# Altium schematic symbol library Arduinolib.SchLib: 14 symbols
Pins are listed as number, name and electrical type; pins without a type are passive.

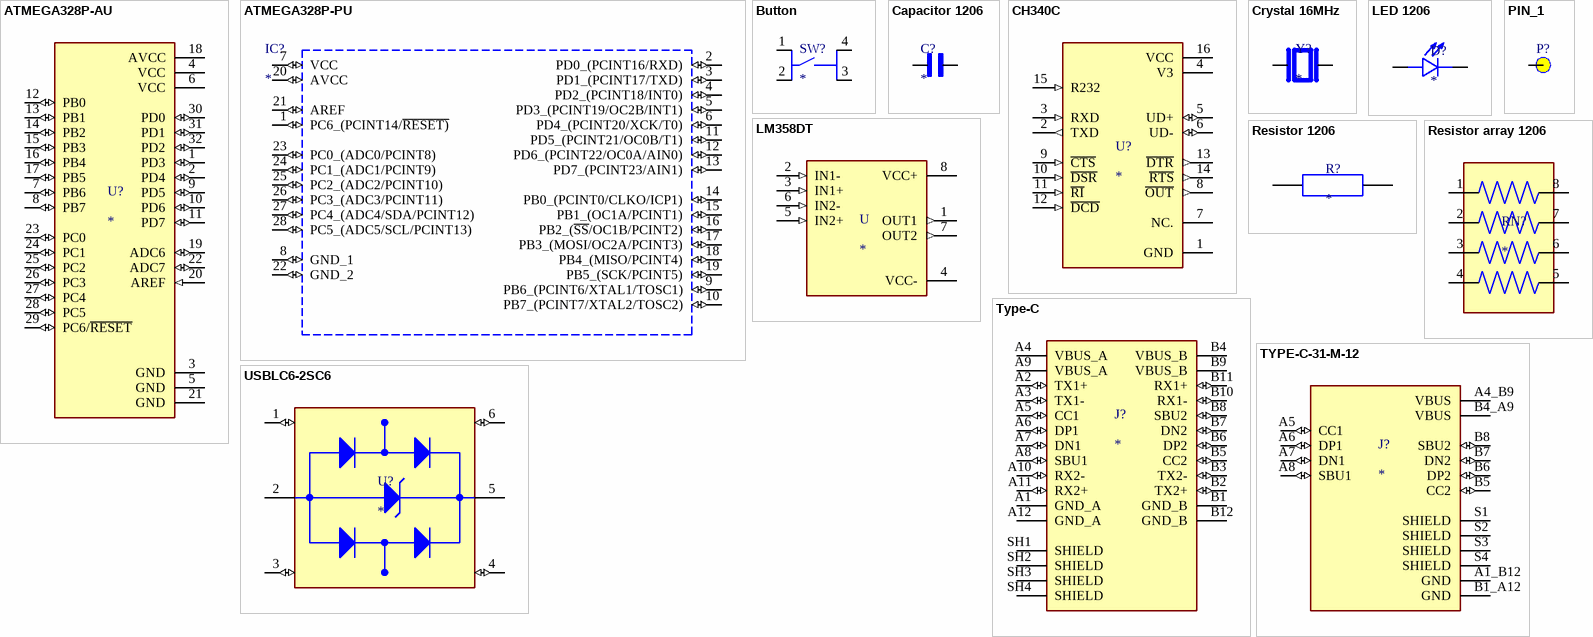
[diagram p0: symbols ATMEGA328P-AU to USBLC6-2SC6]

## ATMEGA328P-AU
designator U?
MICROCONTROLLER MCU, 8 BIT, ATMEGA, 20MH; MICROCONTROLLER MCU, 8 BIT, ATMEGA, 20MHZ, TQFP-32; Controller Family/Series:ATmega; CPU Speed:20MHz; Program Memory Size:32KB; RAM Memory Size:2KB; No. of Pins:32Pins; MCU Case Style:TQFP; No. of I/O's:23I/O's; P; MF: Microchip Technology; MP: ATMEGA328PAU; SnapEDA_Link: https://www.snapeda.com/parts/ATMEGA328PAU/Microchip+Technology/view-part/?ref=snap; Package: None; Value: *; Check_prices: https://www.snapeda.com/parts/ATMEGA328PAU/Microchip+Technology/view-part/?ref=eda
footprint ATMEGA328P-AU
pins: 1 PD3 (io), 2 PD4 (io), 3 GND (power), 4 VCC (power), 5 GND (power), 6 VCC (power), 7 PB6 (io), 8 PB7 (io), 9 PD5 (io), 10 PD6 (io), 11 PD7 (io), 12 PB0 (io), 13 PB1 (io), 14 PB2 (io), 15 PB3 (io), 16 PB4 (io), 17 PB5 (io), 18 AVCC (power), 19 ADC6 (io), 20 AREF (in), 21 GND (power), 22 ADC7 (io), 23 PC0 (io), 24 PC1 (io), 25 PC2 (io), 26 PC3 (io), 27 PC4 (io), 28 PC5 (io), 29 PC6/~{RESET} (io), 30 PD0 (io), 31 PD1 (io), 32 PD2 (io)

## ATMEGA328P-PU
designator IC?
AVR AVRÂ® ATmega Microcontroller IC 8-Bit 20MHz 32KB (16K x 16) FLASH 28-PDIP; MF: Microchip Technology; MP: ATMEGA328PPU; SnapEDA_Link: https://www.snapeda.com/parts/ATMEGA328PPU/Microchip+Technology/view-part/?ref=snap; Package: None; Value: *; Check_prices: https://www.snapeda.com/parts/ATMEGA328PPU/Microchip+Technology/view-part/?ref=eda
footprint ATMEGA328P-PU
pins: 1 PC6_(PCINT14/~{RESET)} (io), 2 PD0_(PCINT16/RXD) (io), 3 PD1_(PCINT17/TXD) (io), 4 PD2_(PCINT18/INT0) (io), 5 PD3_(PCINT19/OC2B/INT1) (io), 6 PD4_(PCINT20/XCK/T0) (io), 7 VCC (io), 8 GND_1 (io), 9 PB6_(PCINT6/XTAL1/TOSC1) (io), 10 PB7_(PCINT7/XTAL2/TOSC2) (io), 11 PD5_(PCINT21/OC0B/T1) (io), 12 PD6_(PCINT22/OC0A/AIN0) (io), 13 PD7_(PCINT23/AIN1) (io), 14 PB0_(PCINT0/CLKO/ICP1) (io), 15 PB1_(OC1A/PCINT1) (io), 16 PB2_(~{SS}/OC1B/PCINT2) (io), 17 PB3_(MOSI/OC2A/PCINT3) (io), 18 PB4_(MISO/PCINT4) (io), 19 PB5_(SCK/PCINT5) (io), 20 AVCC (io), 21 AREF (io), 22 GND_2 (io), 23 PC0_(ADC0/PCINT8) (io), 24 PC1_(ADC1/PCINT9) (io), 25 PC2_(ADC2/PCINT10) (io), 26 PC3_(ADC3/PCINT11) (io), 27 PC4_(ADC4/SDA/PCINT12) (io), 28 PC5_(ADC5/SCL/PCINT13) (io)

## Button
designator SW?
Tactile Switch SPST-NO Top Actuated Through Hole; MF: TE Connectivity ALCOSWITCH Switches; MP: 1-1825910-4; SnapEDA_Link: https://www.snapeda.com/parts/1-1825910-4/TE+Connectivity+Alcoswitch+Switches/view-part/?ref=snap; Package: None; Value: *; Check_prices: https://www.snapeda.com/parts/1-1825910-4/TE+Connectivity+Alcoswitch+Switches/view-part/?ref=eda
footprint Button
pins: 1, 2, 3, 4

## Capacitor 1206
designator C?
MF: AVX; MP: 12061C225K4T2A; SnapEDA_Link: https://www.snapeda.com/parts/12061C225K4T2A/AVX/view-part/?ref=snap; Package: 3216 AVX; Value: *; Check_prices: https://www.snapeda.com/parts/12061C225K4T2A/AVX/view-part/?ref=eda
footprint Capacitor 1206
pins: 1, 2

## CH340C
designator U?
USB to serial chip CH340; MP: CH340C; MF: WCH; Price: None; Availability: Not in stock; Package: None; SnapEDA_Link: https://www.snapeda.com/parts/CH340C/WCH/view-part/?ref=snap; Check_prices: https://www.snapeda.com/parts/CH340C/WCH/view-part/?ref=eda; Value: *
footprint CH-340C
pins: 1 GND (power), 2 TXD (out), 3 RXD (in), 4 V3 (power), 5 UD+ (io), 6 UD- (io), 7 NC., 8 ~{OUT} (out), 9 ~{CTS} (in), 10 ~{DSR} (in), 11 ~{RI} (in), 12 ~{DCD} (in), 13 ~{DTR} (out), 14 ~{RTS} (out), 15 R232 (in), 16 VCC (power)

## Crystal 16MHz
designator Y?
Quartz Crystal, HC-49/U-S Short Package; MF: Aker Technology; MP: CA-3.6864-18-3050-X; SnapEDA_Link: https://www.snapeda.com/parts/CA-3.6864-18-3050-X/Aker/view-part/?ref=snap; Package: None; Value: *; Check_prices: https://www.snapeda.com/parts/CA-3.6864-18-3050-X/Aker/view-part/?ref=eda
footprint Crystal 16MHz
pins: 1, 2

## LED 1206
designator D?
MF: Lite-On Inc.; MP: LTST-C230KGKT; SnapEDA_Link: https://www.snapeda.com/parts/LTST-C230KGKT/Lite-On/view-part/?ref=snap; Package: 1206 Lite-On; Value: *; Check_prices: https://www.snapeda.com/parts/LTST-C230KGKT/Lite-On/view-part/?ref=eda
footprint LED 1206
pins: A, C

## LM358DT
designator U
MP: LM358DT; MF: STMicroelectronics; Price: None; Package: SOIC-8 STMicroelectronics; Value: *; Availability: Unavailable; SnapEDA_Link: https://www.snapeda.com/parts/LM358DT/STMicroelectronics/view-part/6634/?ref=snap
footprint LM358DT
pins: 1 OUT1 (out), 2 IN1- (in), 3 IN1+ (in), 4 VCC- (power), 5 IN2+ (in), 6 IN2- (in), 7 OUT2 (out), 8 VCC+ (power)

## PIN_1
designator P?  (no BOM)
footprint PCB_Pin_1
pins: 0 Pin

## Resistor 1206
designator R?
MP: ERJU08F4703V; Package: None; Price: None; Availability: Unavailable; Value: *
footprint Resistor 1206
pins: 1, 2

## Resistor array 1206
designator RN?
Resistor,Thick Film,Networks & Arrays,330 Ohm,5%,8 Pin | Bourns CAY16-331J4LF; SnapEDA_Link: https://www.snapeda.com/parts/CAY16-331J4LF/Bourns/view-part/?ref=snap; Package: NON STANDARD-8 Bourns; Value: *; MF: Bourns; MP: CAY16-331J4LF; Check_prices: https://www.snapeda.com/parts/CAY16-331J4LF/Bourns/view-part/?ref=eda
footprint Resistor array 1206
pins: 1, 2, 3, 4, 5, 6, 7, 8

## Type-C
designator J?
MP: 2345986-1; Package: None; Price: None; Value: *; Availability: Unavailable
footprint Type-C
pins: A1 GND_A (power), A2 TX1+ (io), A3 TX1- (io), A4 VBUS_A (power), A5 CC1 (io), A6 DP1 (io), A7 DN1 (io), A8 SBU1 (io), A9 VBUS_A (power), A10 RX2- (io), A11 RX2+ (io), A12 GND_A (power), B1 GND_B (power), B2 TX2+ (io), B3 TX2- (io), B4 VBUS_B (power), B5 CC2 (io), B6 DP2 (io), B7 DN2 (io), B8 SBU2 (io), B9 VBUS_B (power), B10 RX1- (io), B11 RX1+ (io), B12 GND_B (power), SH1 SHIELD, SH2 SHIELD, SH3 SHIELD, SH4 SHIELD

## TYPE-C-31-M-12
designator J?
USB Connectors 24 Receptacle 1 8.94*7.3mm RoHS; MF: HRO Electronics Co., Ltd.; MP: TYPE-C-31-M-12; SnapEDA_Link: https://www.snapeda.com/parts/TYPE-C-31-M-12/HRO+Electronics+Co.%252C+Ltd./view-part/?ref=snap; Package: Package; Value: *; Check_prices: https://www.snapeda.com/parts/TYPE-C-31-M-12/HRO+Electronics+Co.%252C+Ltd./view-part/?ref=eda
footprint HRO_TYPE-C-31-M-12
pins: A1_B12 GND (power), A4_B9 VBUS (power), A5 CC1 (io), A6 DP1 (io), A7 DN1 (io), A8 SBU1 (io), B1_A12 GND (power), B4_A9 VBUS (power), B5 CC2 (io), B6 DP2 (io), B7 DN2 (io), B8 SBU2 (io), S1 SHIELD, S2 SHIELD, S3 SHIELD, S4 SHIELD

## USBLC6-2SC6
designator U?
17V Clamp 5A (8/20Âµs) Ipp Tvs Diode Surface Mount SOT-23-6; MF: STMicroelectronics; MP: USBLC6-2SC6; Value: *; SnapEDA_Link: https://www.snapeda.com/parts/USBLC6-2SC6/STMicroelectronics/view-part/?ref=snap; Check_prices: https://www.snapeda.com/parts/USBLC6-2SC6/STMicroelectronics/view-part/?ref=eda; Purchase-URL: https://pricing.snapeda.com/search/part/USBLC6-2SC6/?ref=eda; Price: None; Availability: In Stock; Package: SOT-23-6 STMicroelectronics
footprint USBLC6-2SC6
pins: 1 I/O1_IN (io), 2 GND (power), 3 I/O2_IN (io), 4 I/O2_OUT (io), 5 VBUS (power), 6 I/O1_OUT (io)